# Altium footprint library Jinlong.PcbLib: 1 footprints
Each footprint in its own frame and in the unit in brackets; x right, y up, seen from the top. Pads: shape width x height; smd on the part's side, far side on the other; paste and mask are expansions set on the pad; w line width, h text height; cw(c..) or ccw(c..) is an arc to the next point about the centre after c.
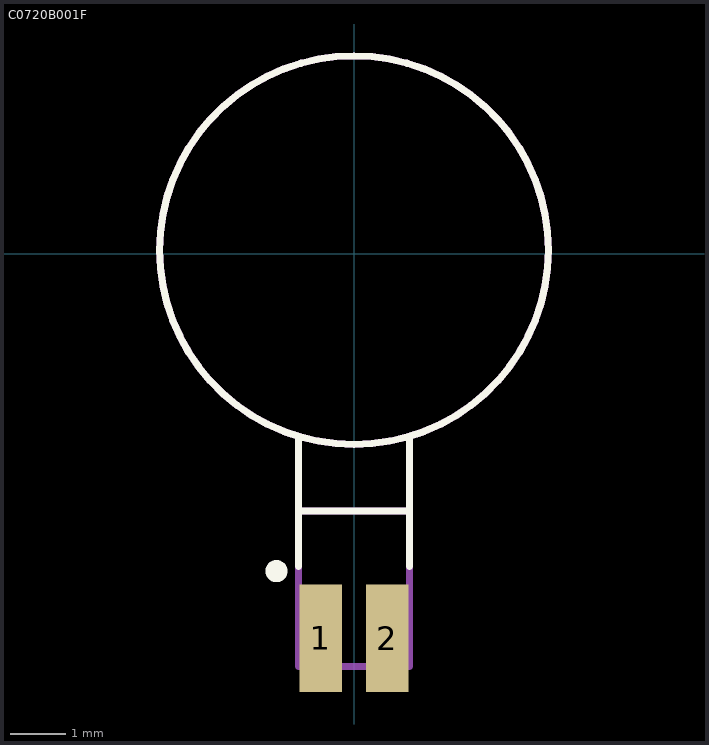
[diagram p0: the footprint, top view; thin cyan lines are the x and y axes]

## C0720B001F [mm]
pads (2):
  rect 0.76x1.94 smd: 1(-0.6,-6.925) 2(0.6,-6.925)
Top Overlay:
  circle w0.127: c0,0.065 r3.5
  circle w0.2: c-1.397,-5.715 r0.1
  lines w0.127: -1,-5.63 -1,-4.635 ; -1,-3.33 -1,-4.635 ; 1,-5.63 1,-4.635 ; 1,-3.33 1,-4.635 ; -1,-4.635 1,-4.635
Top 3D Body:
  circle w0.127: c0,0.065 r3.5
  circle w0.127: c0,0.065 r3.5
  lines w0.127: -1,-7.435 -1,-3.33 -1,-7.435 ; -1,-7.435 1,-7.435 ; -1,-7.435 1,-7.435 ; 1,-7.435 1,-4.635 1,-7.435 ; 1,-4.63 1,-3.33 1,-4.63 ; 1,-4.63 -1,-4.63 1,-4.63
3D body "C0720B001F.STEP": height 2.1, standoff 0, extent -3.5,-7.5 3.5,3.5